# Altium footprint library local_lib.PcbLib: 10 footprints
Each footprint in its own frame and in the unit in brackets; x right, y up, seen from the top. Pads: shape width x height; smd on the part's side, far side on the other; paste and mask are expansions set on the pad; w line width, h text height; cw(c..) or ccw(c..) is an arc to the next point about the centre after c.
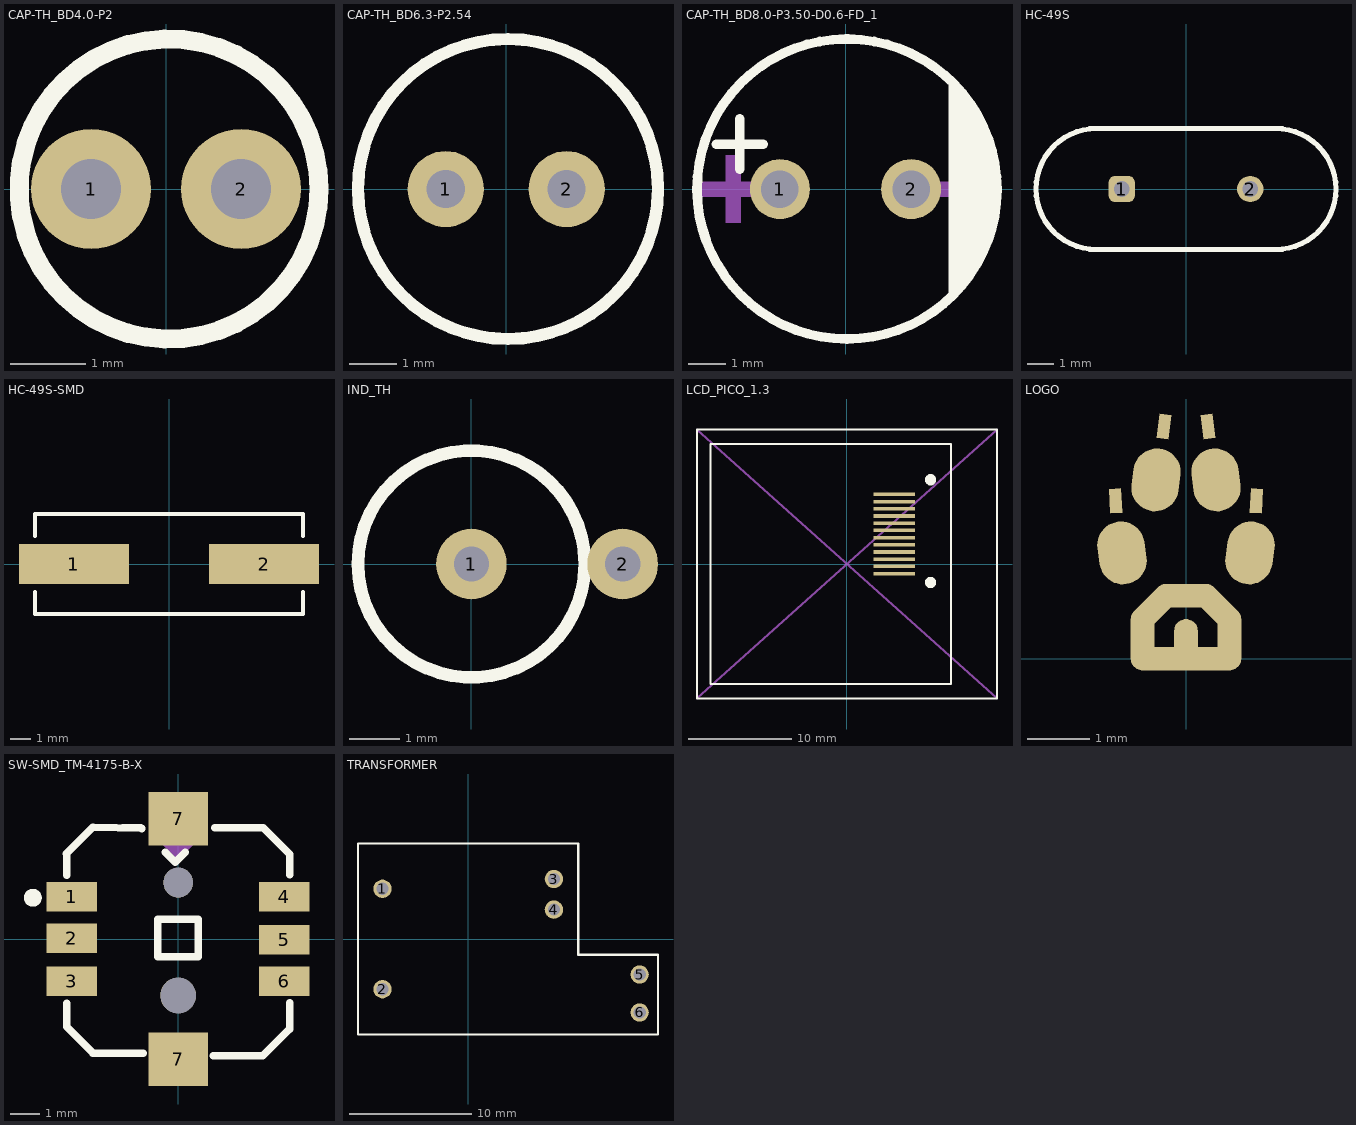
[diagram p0: the footprints below, top view; thin cyan lines are the x and y axes]

## CAP-TH_BD4.0-P2 [mm]
pads (2):
  round 1.6 hole 0.8 paste-2539.97 mask+0.051: 1(-1,0) 2(1,0)
Top Overlay:
  circle w0.254: c0.038,0.001 r2
3D body: height 8, standoff 0, extent -2,-2 2.038,2

## CAP-TH_BD6.3-P2.54 [mm]
pads (2):
  round 1.6 hole 0.8 paste-2539.97 mask+0.051: 1(-1.27,0) 2(1.27,0)
Top Overlay:
  circle w0.254: c0.038,0.001 r3.15
3D body: height 8.3, standoff 0, extent -3.2,-3.2 3.2,3.2

## CAP-TH_BD8.0-P3.50-D0.6-FD_1 [mm]
pads (2):
  round 1.6 hole 1 paste-2539.97 mask+0.051: 1(-1.75,0) 2(1.75,0)
Top Overlay:
  region: 2.75,-3 2.94,-2.8 3.268,-2.355 3.536,-1.872 3.741,-1.359 3.88,-0.824 3.95,-0.276 3.95,0.276 3.88,0.824 3.741,1.359 3.536,1.872 3.268,2.355 2.94,2.8 2.75,3
  lines w0.254: -3.445,1.2 -2.2,1.2 ; -2.822,0.527 -2.822,1.873 ; 0.002,4 ccw(c0.038,0.001) 0.074,4
Mechanical 15:
  region: -3.2,0.5 -3.2,-0.9 -2.8,-0.9 -2.8,0.7 -2.8,0.9 -3.2,0.9
  region: -2.5,0.2 -3.9,0.2 -3.9,-0.2 -2.3,-0.2 -2.1,-0.2 -2.1,0.2
  region: 3.5,0.2 2.1,0.2 2.1,-0.2 3.7,-0.2 3.9,-0.2 3.9,0.2
3D body: height 13, standoff 0, extent -4,-4 4,4

## HC-49S [mm]
pads (2):
  rrect50% 1x1 hole 0.6: 1(-2.44,0)
  round 1 hole 0.6: 2(2.44,0)
Top Overlay:
  lines w0.2: 3.4,-2.3 ccw(c3.4,0) 3.4,2.3 ; 3.49,-2.3 -3.4,-2.3 cw(c-3.4,0) -3.4,2.3 3.49,2.3
3D body "crystal_hc49.STEP": height 3.6, standoff -1.8, extent -5.675,-2.325 5.675,2.325

## HC-49S-SMD [mm]
pads (2):
  rect 5.5x2 smd: 1(-4.75,0) 2(4.75,0)
Top Overlay:
  lines w0.2: -6.7,-1.4 -6.7,-2.5 6.7,-2.5 6.7,-1.4 ; -6.7,1.4 -6.7,2.5 6.7,2.5 6.7,1.4
3D body "User Library-HC49S-SMD.STEP": height 4.3, standoff 0, extent -6.7,-2.45 6.7,2.45

## IND_TH [mm]
pads (2):
  round 1.4 hole 0.7: 1(0,0) 2(3,0)
Top Overlay:
  circle w0.254: c0,0 r2.25
3D body: height 9, standoff 1, extent -2.25,-2.25 2.25,2.25

## LCD_PICO_1.3 [mm]
pads (12):
  rect 4x0.35 smd: 1(4.6,6.77) 2(4.6,6.07) 3(4.6,5.37) 4(4.6,4.67) 5(4.6,3.97) 6(4.6,3.27) 7(4.6,2.57) 8(4.6,1.87) 9(4.6,1.17) 10(4.6,0.47) 11(4.6,-0.23) 12(4.6,-0.93)
Top Overlay:
  circle w0.8: c8.13,8.2 r0.15
  circle w0.8: c8.13,-1.8 r0.15
  lines w0.2: -14.6,-13.08 -14.6,13.08 14.6,13.08 14.6,-13.08 -14.6,-13.08 ; -13.27,-11.7 10.13,-11.7 10.13,11.7 -13.27,11.7 -13.27,-11.7
Mechanical 1:
  lines w0.2: -14.6,-13.08 14.6,13.08 ; -14.6,13.08 14.6,-13.08
3D body: height 1.5, standoff 0, extent -14.6,-13.08 14.6,13.08
3D body: height 1.51, standoff 0, extent -13.27,-11.7 10.13,11.7

## LOGO [mil]
pads (15):
  rect 15.75x7.87 smd rot 93 mask+4: ""(-44.55,100)
  oval 30x40 smd rot 8 mask+4: ""(-40.55,67)
  oval 15x39.5 smd mask+4: ""(-27.5,12.5) ""(27.5,12.5)
  oval 15x36.21 smd rot 135 mask+4: ""(-20,32.5)
  oval 30x40 smd rot 173 mask+4: ""(-18.99,113.27)
  rect 15.75x7.87 smd rot 83 mask+4: ""(-13.91,147.15)
  oval 70x15 smd mask+4: ""(0,0)
  oval 15x32.5 smd mask+4: ""(0,9)
  oval 39.5x15 smd mask+4: ""(0,40)
  rect 15.75x7.87 smd rot 97 mask+4: ""(13.91,147.15)
  oval 30x40 smd rot 7 mask+4: ""(18.99,113.27)
  oval 15x36.21 smd rot 45 mask+4: ""(20,32.5)
  oval 30x40 smd rot 172 mask+4: ""(40.55,67)
  rect 15.75x7.87 smd rot 87 mask+4: ""(44.55,100)

## SW-SMD_TM-4175-B-X [mm]
pads (10):
  rect 1.7x1 smd paste+0 mask+0.051: 1(-3.575,1.425) 2(-3.575,0.028) 3(-3.575,-1.425) 4(3.575,1.425) 5(3.575,-0.028) 6(3.575,-1.425)
  rect 2x1.8 smd paste+0 mask+0.051: 7(0,-4.05) 7(0,4.05)
  round 1.2 hole 1.2 unplated paste-2539.97: ""(0,-1.9)
  round 1 hole 1 unplated paste-2539.97: ""(0,1.9)
Top Overlay:
  circle w0.3: c-4.89,1.39 r0.15
  lines w0.254: -3.76,2.87 -2.871,3.759 ; -3.75,-2.954 -3.75,-2.17 ; -3.75,2.142 -3.75,2.876 ; -3.749,-2.961 -2.86,-3.85 ; -2.868,-3.85 -1.18,-3.85 ; -2.86,3.76 -1.25,3.73 ; -1.867,3.742 -1.252,3.742 -1.231,3.72 ; -0.43,2.92 -0.096,2.586 0.238,2.92 ; 1.184,-3.93 2.84,-3.93 ; 1.231,3.75 2.86,3.75 ; 2.86,-3.92 3.749,-3.031 ; 2.871,3.739 3.76,2.85 3.76,2.17 ; 3.76,-3.01 3.76,-2.142 ; -0.69,-0.6 -0.69,0.66 0.67,0.66 0.67,-0.6 -0.69,-0.6
Mechanical 15:
  circle w0.475: c0,-1.9 r0.238
  circle w0.325: c0,1.9 r0.163
  region: 0.53,3.195 0,2.665 -0.53,3.195
3D body "TM-4175-B-B.step": height 5.65, standoff -0.45, extent -3.75,-4.278 3.75,4.222

## TRANSFORMER [mm]
pads (6):
  round 1.5 hole 1: 1(-7,4.1) 2(-7,-4.1) 3(7,4.9) 4(7,2.4) 5(14,-2.9) 6(14,-6)
Top Overlay:
  lines w0.2: -9,-7.8 15.5,-7.8 15.5,-1.3 9,-1.3 9,7.8 -9,7.8 -9,-7.8
3D body: height 12.5, standoff 0, extent -9,-7.8 15.5,7.8